# Altium schematic symbol library US-Plus-CPM.SCHLIB: 51 symbols
Pins are listed as number, name and electrical type; pins without a type are passive.

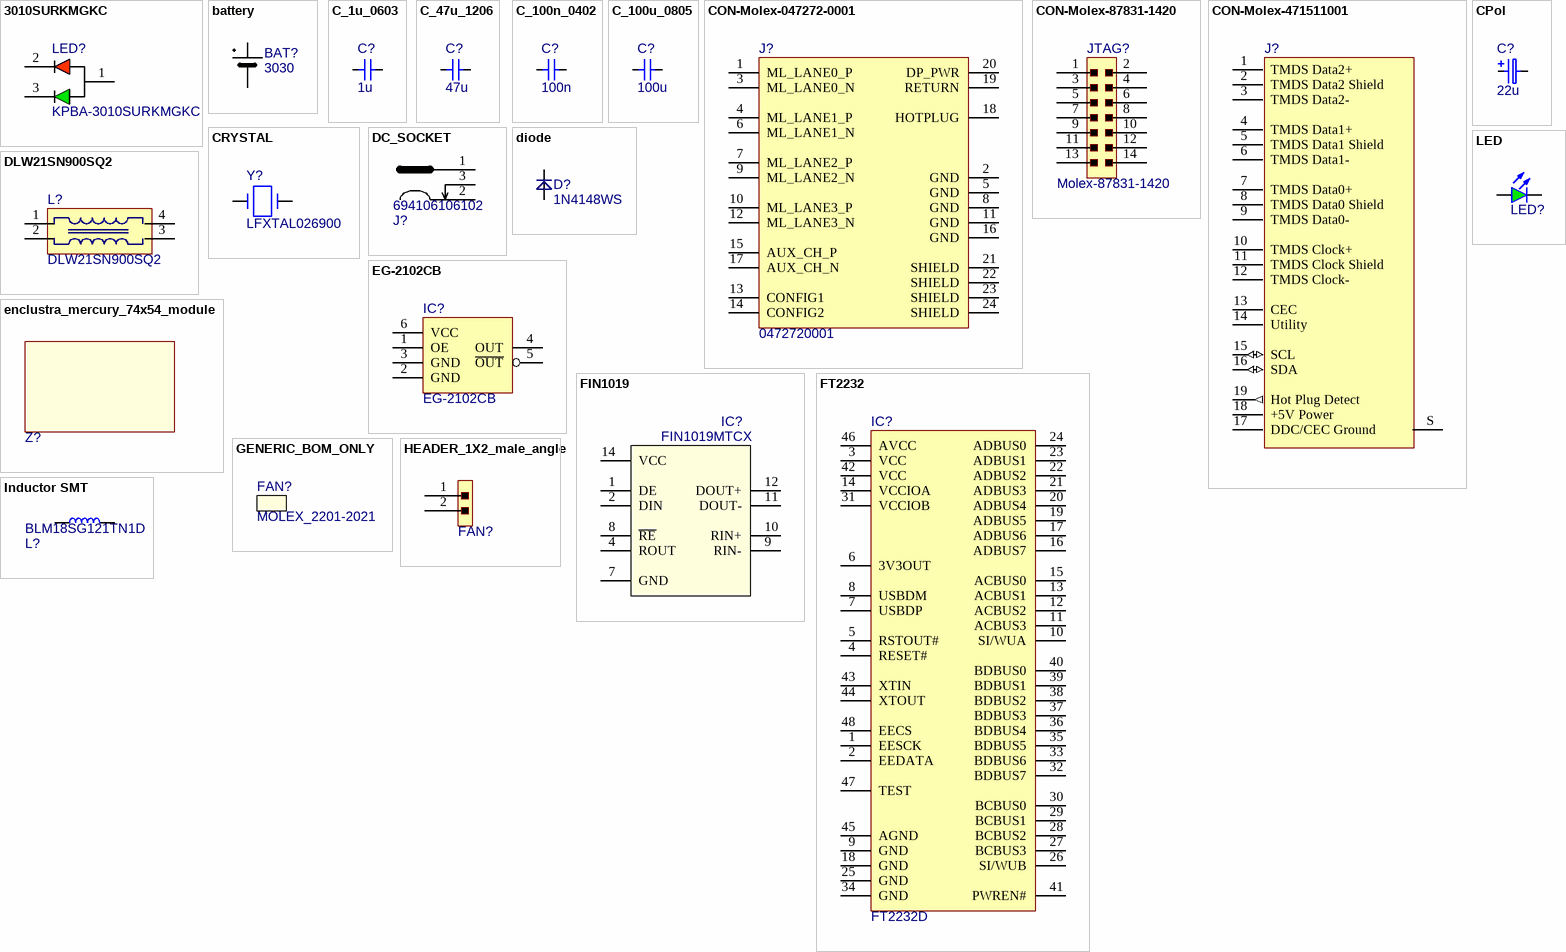
[diagram p0: symbols 3010SURKMGKC to LED]

## 3010SURKMGKC
designator LED?, comment KPBA-3010SURKMGKC
LED SMD 1104 red/green 3x1mm 140° Lens: transparent; Manufacturer: Kingbright; Part Number: KPBA-3010SURKMGKC; Value: KPBA-3010SURKMGKC; Part Symbol: KPBA-3010SURKMGKC
footprint 3010SURKMGKC
pins: 1 CA, 2 R_K, 3 G_K

## battery
designator BAT?, comment 3030
SMT holder for  CR1025 battery; Manufacturer: Keystone; Part Number: Keystone_CR1025; Value: 3030
footprint KEYSTONE_CR1025
pins: +, -

## C_1u_0603
designator C?, comment 1u
MLCC SMT Capacitor 1uF 0603; Part Number: C_1u_0603; Manufacturer: MULTICOMP; Part Symbol: MC0603X105M6R3CT; Value: 1u
footprint 0603
pins: 1, 2
1 alternate drawing of the same symbol

## C_47u_1206
designator C?, comment 47u
MLCC SMT Capacitor 47uF 1206; Part Number: C_47u_1206; Manufacturer: MURATA; Part Symbol: GRM31CC80J476KE18L; Value: 47u
footprint 1206
pins: 1, 2
1 alternate drawing of the same symbol

## C_100n_0402
designator C?, comment 100n
MLCC SMT Capacitor 100nF 0402; Part Number: C_100n_0402; Manufacturer: MULTICOMP; Part Symbol: MC0402X104M100CT; Value: 100n
footprint 0402
pins: 1, 2
1 alternate drawing of the same symbol

## C_100u_0805
designator C?, comment 100u
MLCC SMT Capacitor 100uF 0805; Part Number: C_100u_0805; Manufacturer: MURATA; Part Symbol: GRM21BR60J107ME15L; Value: 100u
footprint 0805
pins: 1, 2
1 alternate drawing of the same symbol

## CON-Molex-047272-0001
designator J?, comment 0472720001
Manufacturer: Molex; ClassName: DisplayPort; Part Symbol: 0472720001; Value: 0472720001
pins: 1 ML_LANE0_P, 2 GND, 3 ML_LANE0_N, 4 ML_LANE1_P, 5 GND, 6 ML_LANE1_N, 7 ML_LANE2_P, 8 GND, 9 ML_LANE2_N, 10 ML_LANE3_P, 11 GND, 12 ML_LANE3_N, 13 CONFIG1, 14 CONFIG2, 15 AUX_CH_P, 16 GND, 17 AUX_CH_N, 18 HOTPLUG, 19 RETURN, 20 DP_PWR, 21 SHIELD, 22 SHIELD, 23 SHIELD, 24 SHIELD

## CON-Molex-87831-1420
designator JTAG?, comment Molex-87831-1420
HEADER, SQUARE PIN, M/GRID, 14WAY; Part Number: CON-Molex-87831-1420; Manufacturer: MOLEX; Value: Molex-87831-1420; Part Symbol: 87831-1420
footprint CON-Molex-87831-1420
pins: 1, 2, 3, 4, 5, 6, 7, 8, 9, 10, 11, 12, 13, 14

## CON-Molex-471511001
designator J?
Header right angle HDMI; Part Number: CON-Molex-471511001; Manufacturer: MOLEX; Part Symbol: 47151-1001
footprint Molex_HDMI_471511001
pins: 1 TMDS Data2+, 2 TMDS Data2 Shield, 3 TMDS Data2-, 4 TMDS Data1+, 5 TMDS Data1 Shield, 6 TMDS Data1-, 7 TMDS Data0+, 8 TMDS Data0 Shield, 9 TMDS Data0-, 10 TMDS Clock+, 11 TMDS Clock Shield, 12 TMDS Clock-, 13 CEC, 14 Utility, 15 SCL (io), 16 SDA (io), 17 DDC/CEC Ground (power), 18 +5V Power (power), 19 Hot Plug Detect (out), S SH

## CPol
designator C?  value 22u
Tantalum SMT Capacitor 22uF Case KEMET_C; Part Number: C_22u_KEMET_C; Manufacturer: KEMET; Part Symbol: T491C226K025AT; Voltage: 25V
footprint KEMET_C
pins: 1, 2
1 alternate drawing of the same symbol

## CRYSTAL
designator Y?, comment LFXTAL026900
CRYSTAL, 6MHZ, 18PF, SMD; Part Number: CRYSTAL_6MHz_SMD; Manufacturer: IQD FREQUENCY PRODUCTS; Value: LFXTAL026900; Part Symbol: LFXTAL026900
footprint crystal_smd
pins: 1, 2

## DC_SOCKET
designator J?, comment 694106106102
DC Power Jack Right Angled SMT Ø6.4 with 4 soldering pads & pegs WR-DC; Part Number: WE-694106106102; Manufacturer: WURTH ELEKTRONIK; Pins number: 3; Value: 694106106102; Part Symbol: 694106106102
footprint 694106106102
pins: 1, 2, 3

## diode
designator D?, comment 1N4148WS
Diode small signal; Manufacturer: MULTICOMP; Part Number: 1N4148WS; Value: 1N4148WS; Part Symbol: 1N4148WS
footprint SOD-323
pins: A, C

## DLW21SN900SQ2
designator L?
Common mode choke; Manufacturer: MURATA; Part Symbol: DLW21SN900SQ2L; Part Number: DLW21SN900SQ2; Value: DLW21SN900SQ2
footprint DLW21SN900SQ2
pins: 1, 2, 3, 4

## EG-2102CB
designator IC?
Standard Clock Oscillators 156.25MHz 3V3; Manufacturer: Epson; Part Symbol: EG-2102CB 156.2500M-LGPAL3; Part Number: EG-2102CB; Value: EG-2102CB
footprint EG-2102CB
pins: 1 OE, 2 GND, 3 GND, 4 OUT, 5 ~{OUT}, 6 VCC

## enclustra_mercury_74x54_module
designator Z?, comment Mechanical  (value not drawn)
Part Number: MercuryModule_74x54
footprint mercury_74x54_module

## FIN1019
designator IC?, comment FIN1019MTCX
3.3 V LVDS High Speed Differential Driver Receiver; Manufacturer: OM SEMICONDUCTOR; Part Number: FIN1019MTCX; Value: FIN1019MTCX; Part Symbol: FIN1019MTCX; ClassName: DisplayPort
footprint TSSOP-14
pins: 1 DE, 2 DIN, 4 ROUT, 7 GND, 8 ~{RE}, 9 RIN-, 10 RIN+, 11 DOUT-, 12 DOUT+, 14 VCC
1 alternate drawing of the same symbol

## FT2232
designator IC?, comment FT2232D
Dual USB-UART/FIFO; Manufacturer: FTDI; Part Symbol: FT2232D-REEL; Part Number: FT2232D; Value: FT2232D
footprint LQFP-48
pins: 1 EESCK, 2 EEDATA, 3 VCC, 4 RESET#, 5 RSTOUT#, 6 3V3OUT, 7 USBDP, 8 USBDM, 9 GND, 10 SI/WUA, 11 ACBUS3, 12 ACBUS2, 13 ACBUS1, 14 VCCIOA, 15 ACBUS0, 16 ADBUS7, 17 ADBUS6, 18 GND, 19 ADBUS5, 20 ADBUS4, 21 ADBUS3, 22 ADBUS2, 23 ADBUS1, 24 ADBUS0, 25 GND, 26 SI/WUB, 27 BCBUS3, 28 BCBUS2, 29 BCBUS1, 30 BCBUS0, 31 VCCIOB, 32 BDBUS7, 33 BDBUS6, 34 GND, 35 BDBUS5, 36 BDBUS4, 37 BDBUS3, 38 BDBUS2, 39 BDBUS1, 40 BDBUS0, 41 PWREN#, 42 VCC, 43 XTIN, 44 XTOUT, 45 AGND, 46 AVCC, 47 TEST, 48 EECS

## GENERIC_BOM_ONLY
designator FAN?, comment MOLEX_2201-2021  (mechanical)
KK 254 Crimp Housing 2 circuits; Manufacturer: MOLEX; Part Number: MOLEX_2201-2021; Value: MOLEX_2201-2021; Part Symbol: MOLEX_2201-2021

## HEADER_1X2_male_angle
designator FAN?  (value not drawn)
1x2 pinhead male angle; Part Number: HEADER_1X2_male_angle
footprint HEADER_1X2_male 2.54mm Angle
pins: 1, 2

## Inductor SMT
designator L?, comment BLM18SG121TN1D
FERRITE BEAD, 0.025OHM, 3A, 0603; Manufacturer: MURATA; Part Number: BLM18SG121TN1D; Value: BLM18SG121TN1D; Part Symbol: BLM18SG121TN1D; Rated Current: 3A
footprint 0603
pins: 1, 2

## LED
designator LED?, comment KPT-1608SGC  (value not drawn)
LED Green 0603 case; Part Number: LED_G; Manufacturer: KINGBRIGHT; Value: KPT-1608SGC; Part Symbol: KPT-1608SGC
footprint LED0603
pins: A, K

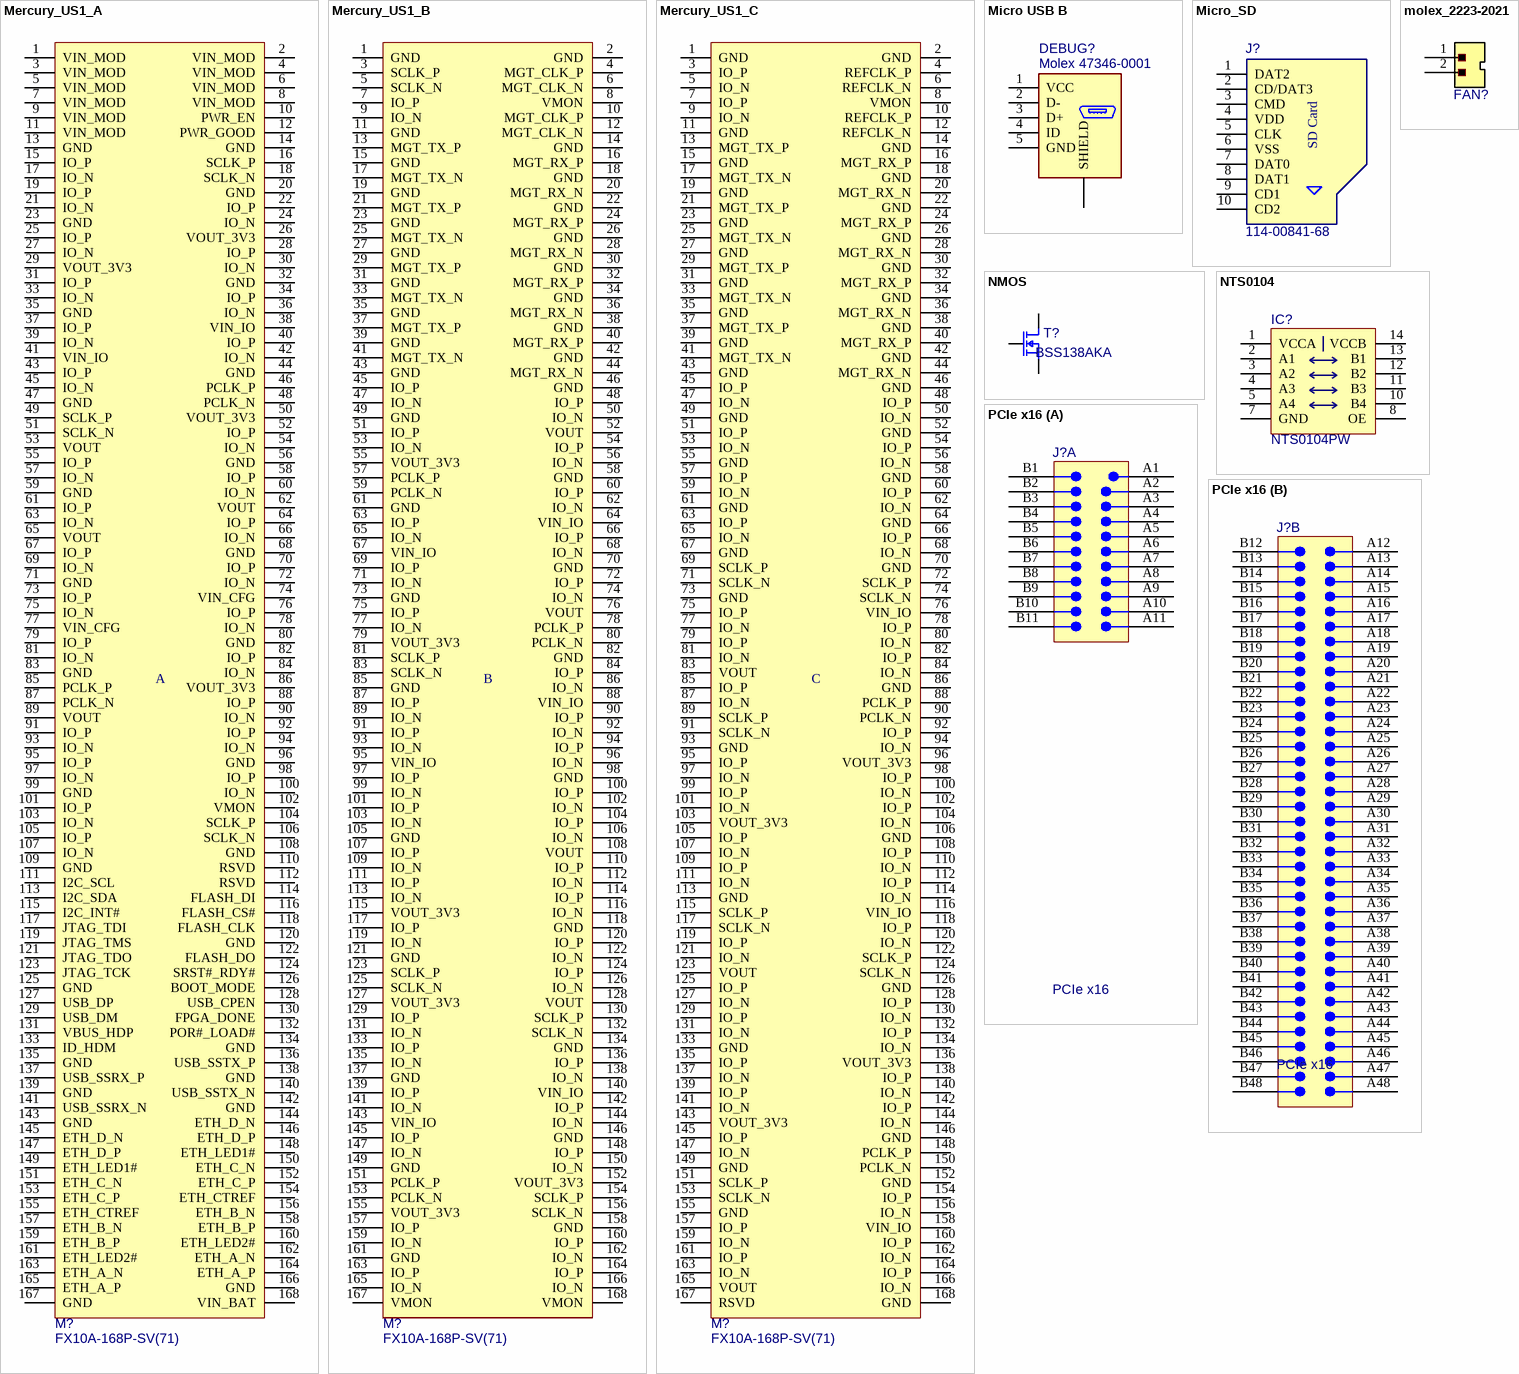
[diagram p1: symbols Mercury_US1_A to PCIe x16]

## Mercury_US1_A
designator M?, comment FX10A-168P-SV(71)
Enclustra Mercury Ultrascale connector; Part Number: Mercury_US1_A; Manufacturer: Hirose; Part Symbol: FX10A-168P-SV(71); Value: FX10A-168P-SV(71)
footprint HIROSE_FX10A-168P-SV(71)
pins: 1 VIN_MOD (power), 2 VIN_MOD (power), 3 VIN_MOD (power), 4 VIN_MOD (power), 5 VIN_MOD (power), 6 VIN_MOD (power), 7 VIN_MOD (power), 8 VIN_MOD (power), 9 VIN_MOD (power), 10 PWR_EN, 11 VIN_MOD (power), 12 PWR_GOOD, 13 GND (power), 14 GND (power), 15 IO_P, 16 SCLK_P, 17 IO_N, 18 SCLK_N, 19 IO_P, 20 GND (power), 21 IO_N, 22 IO_P, 23 GND (power), 24 IO_N, 25 IO_P, 26 VOUT_3V3 (power), 27 IO_N, 28 IO_P, 29 VOUT_3V3 (power), 30 IO_N, 31 IO_P, 32 GND (power), 33 IO_N, 34 IO_P, 35 GND (power), 36 IO_N, 37 IO_P, 38 VIN_IO (power), 39 IO_N, 40 IO_P, 41 VIN_IO (power), 42 IO_N, 43 IO_P, 44 GND (power), 45 IO_N, 46 PCLK_P, 47 GND (power), 48 PCLK_N, 49 SCLK_P, 50 VOUT_3V3 (power), 51 SCLK_N, 52 IO_P, 53 VOUT (power), 54 IO_N, 55 IO_P, 56 GND (power), 57 IO_N, 58 IO_P, 59 GND (power), 60 IO_N, 61 IO_P, 62 VOUT (power), 63 IO_N, 64 IO_P, 65 VOUT (power), 66 IO_N, 67 IO_P, 68 GND (power), 69 IO_N, 70 IO_P, 71 GND (power), 72 IO_N, 73 IO_P, 74 VIN_CFG (power), 75 IO_N, 76 IO_P, 77 VIN_CFG (power), 78 IO_N, 79 IO_P, 80 GND (power), 81 IO_N, 82 IO_P, 83 GND (power), 84 IO_N, 85 PCLK_P, 86 VOUT_3V3 (power), 87 PCLK_N, 88 IO_P, 89 VOUT (power), 90 IO_N, 91 IO_P, 92 IO_P, 93 IO_N, 94 IO_N, 95 IO_P, 96 GND (power), 97 IO_N, 98 IO_P, 99 GND (power), 100 IO_N, 101 IO_P, 102 VMON, 103 IO_N, 104 SCLK_P, 105 IO_P, 106 SCLK_N, 107 IO_N, 108 GND (power), 109 GND (power), 110 RSVD, 111 I2C_SCL, 112 RSVD, 113 I2C_SDA, 114 FLASH_DI, 115 I2C_INT#, 116 FLASH_CS#, 117 JTAG_TDI, 118 FLASH_CLK, 119 JTAG_TMS, 120 GND (power), 121 JTAG_TDO, 122 FLASH_DO, 123 JTAG_TCK, 124 SRST#_RDY#, 125 GND (power), 126 BOOT_MODE, 127 USB_DP, 128 USB_CPEN, 129 USB_DM, 130 FPGA_DONE, 131 VBUS_HDP, 132 POR#_LOAD#, 133 ID_HDM, 134 GND (power), 135 GND (power), 136 USB_SSTX_P, 137 USB_SSRX_P, 138 GND (power), 139 GND (power), 140 USB_SSTX_N, 141 USB_SSRX_N, 142 GND (power), 143 GND (power), 144 ETH_D_N, 145 ETH_D_N, 146 ETH_D_P, 147 ETH_D_P, 148 ETH_LED1#, 149 ETH_LED1#, 150 ETH_C_N, 151 ETH_C_N, 152 ETH_C_P, 153 ETH_C_P, 154 ETH_CTREF, 155 ETH_CTREF, 156 ETH_B_N, 157 ETH_B_N, 158 ETH_B_P, 159 ETH_B_P, 160 ETH_LED2#, 161 ETH_LED2#, 162 ETH_A_N, 163 ETH_A_N, 164 ETH_A_P, 165 ETH_A_P, 166 GND (power), 167 GND (power), 168 VIN_BAT (power)
text: A

## Mercury_US1_B
designator M?, comment FX10A-168P-SV(71)
Enclustra Mercury Ultrascale connector; Part Number: Mercury_US1_B; Manufacturer: Hirose; Part Symbol: FX10A-168P-SV(71); Value: FX10A-168P-SV(71)
footprint HIROSE_FX10A-168P-SV(71)
pins: 1 GND, 2 GND, 3 SCLK_P, 4 MGT_CLK_P, 5 SCLK_N, 6 MGT_CLK_N, 7 IO_P, 8 VMON, 9 IO_N, 10 MGT_CLK_P, 11 GND, 12 MGT_CLK_N, 13 MGT_TX_P, 14 GND, 15 GND, 16 MGT_RX_P, 17 MGT_TX_N, 18 GND, 19 GND, 20 MGT_RX_N, 21 MGT_TX_P, 22 GND, 23 GND, 24 MGT_RX_P, 25 MGT_TX_N, 26 GND, 27 GND, 28 MGT_RX_N, 29 MGT_TX_P, 30 GND, 31 GND, 32 MGT_RX_P, 33 MGT_TX_N, 34 GND, 35 GND, 36 MGT_RX_N, 37 MGT_TX_P, 38 GND, 39 GND, 40 MGT_RX_P, 41 MGT_TX_N, 42 GND, 43 GND, 44 MGT_RX_N, 45 IO_P, 46 GND, 47 IO_N, 48 IO_P, 49 GND, 50 IO_N, 51 IO_P, 52 VOUT, 53 IO_N, 54 IO_P, 55 VOUT_3V3, 56 IO_N, 57 PCLK_P, 58 GND, 59 PCLK_N, 60 IO_P, 61 GND, 62 IO_N, 63 IO_P, 64 VIN_IO, 65 IO_N, 66 IO_P, 67 VIN_IO, 68 IO_N, 69 IO_P, 70 GND, 71 IO_N, 72 IO_P, 73 GND, 74 IO_N, 75 IO_P, 76 VOUT, 77 IO_N, 78 PCLK_P, 79 VOUT_3V3, 80 PCLK_N, 81 SCLK_P, 82 GND, 83 SCLK_N, 84 IO_P, 85 GND, 86 IO_N, 87 IO_P, 88 VIN_IO, 89 IO_N, 90 IO_P, 91 IO_P, 92 IO_N, 93 IO_N, 94 IO_P, 95 VIN_IO, 96 IO_N, 97 IO_P, 98 GND, 99 IO_N, 100 IO_P, 101 IO_P, 102 IO_N, 103 IO_N, 104 IO_P, 105 GND, 106 IO_N, 107 IO_P, 108 VOUT, 109 IO_N, 110 IO_P, 111 IO_P, 112 IO_N, 113 IO_N, 114 IO_P, 115 VOUT_3V3, 116 IO_N, 117 IO_P, 118 GND, 119 IO_N, 120 IO_P, 121 GND, 122 IO_N, 123 SCLK_P, 124 IO_P, 125 SCLK_N, 126 IO_N, 127 VOUT_3V3, 128 VOUT, 129 IO_P, 130 SCLK_P, 131 IO_N, 132 SCLK_N, 133 IO_P, 134 GND, 135 IO_N, 136 IO_P, 137 GND, 138 IO_N, 139 IO_P, 140 VIN_IO, 141 IO_N, 142 IO_P, 143 VIN_IO, 144 IO_N, 145 IO_P, 146 GND, 147 IO_N, 148 IO_P, 149 GND, 150 IO_N, 151 PCLK_P, 152 VOUT_3V3, 153 PCLK_N, 154 SCLK_P, 155 VOUT_3V3, 156 SCLK_N, 157 IO_P, 158 GND, 159 IO_N, 160 IO_P, 161 GND, 162 IO_N, 163 IO_P, 164 IO_P, 165 IO_N, 166 IO_N, 167 VMON, 168 VMON
text: B

## Mercury_US1_C
designator M?, comment FX10A-168P-SV(71)
Enclustra Mercury Ultrascale connector; Part Number: Mercury_US1_C; Manufacturer: Hirose; Part Symbol: FX10A-168P-SV(71); Value: FX10A-168P-SV(71)
footprint HIROSE_FX10A-168P-SV(71)
pins: 1 GND, 2 GND, 3 IO_P, 4 REFCLK_P, 5 IO_N, 6 REFCLK_N, 7 IO_P, 8 VMON, 9 IO_N, 10 REFCLK_P, 11 GND, 12 REFCLK_N, 13 MGT_TX_P, 14 GND, 15 GND, 16 MGT_RX_P, 17 MGT_TX_N, 18 GND, 19 GND, 20 MGT_RX_N, 21 MGT_TX_P, 22 GND, 23 GND, 24 MGT_RX_P, 25 MGT_TX_N, 26 GND, 27 GND, 28 MGT_RX_N, 29 MGT_TX_P, 30 GND, 31 GND, 32 MGT_RX_P, 33 MGT_TX_N, 34 GND, 35 GND, 36 MGT_RX_N, 37 MGT_TX_P, 38 GND, 39 GND, 40 MGT_RX_P, 41 MGT_TX_N, 42 GND, 43 GND, 44 MGT_RX_N, 45 IO_P, 46 GND, 47 IO_N, 48 IO_P, 49 GND, 50 IO_N, 51 IO_P, 52 GND, 53 IO_N, 54 IO_P, 55 GND, 56 IO_N, 57 IO_P, 58 GND, 59 IO_N, 60 IO_P, 61 GND, 62 IO_N, 63 IO_P, 64 GND, 65 IO_N, 66 IO_P, 67 GND, 68 IO_N, 69 SCLK_P, 70 GND, 71 SCLK_N, 72 SCLK_P, 73 GND, 74 SCLK_N, 75 IO_P, 76 VIN_IO, 77 IO_N, 78 IO_P, 79 IO_P, 80 IO_N, 81 IO_N, 82 IO_P, 83 VOUT, 84 IO_N, 85 IO_P, 86 GND, 87 IO_N, 88 PCLK_P, 89 SCLK_P, 90 PCLK_N, 91 SCLK_N, 92 IO_P, 93 GND, 94 IO_N, 95 IO_P, 96 VOUT_3V3, 97 IO_N, 98 IO_P, 99 IO_P, 100 IO_N, 101 IO_N, 102 IO_P, 103 VOUT_3V3, 104 IO_N, 105 IO_P, 106 GND, 107 IO_N, 108 IO_P, 109 IO_P, 110 IO_N, 111 IO_N, 112 IO_P, 113 GND, 114 IO_N, 115 SCLK_P, 116 VIN_IO, 117 SCLK_N, 118 IO_P, 119 IO_P, 120 IO_N, 121 IO_N, 122 SCLK_P, 123 VOUT, 124 SCLK_N, 125 IO_P, 126 GND, 127 IO_N, 128 IO_P, 129 IO_P, 130 IO_N, 131 IO_N, 132 IO_P, 133 GND, 134 IO_N, 135 IO_P, 136 VOUT_3V3, 137 IO_N, 138 IO_P, 139 IO_P, 140 IO_N, 141 IO_N, 142 IO_P, 143 VOUT_3V3, 144 IO_N, 145 IO_P, 146 GND, 147 IO_N, 148 PCLK_P, 149 GND, 150 PCLK_N, 151 SCLK_P, 152 GND, 153 SCLK_N, 154 IO_P, 155 GND, 156 IO_N, 157 IO_P, 158 VIN_IO, 159 IO_N, 160 IO_P, 161 IO_P, 162 IO_N, 163 IO_N, 164 IO_P, 165 VOUT, 166 IO_N, 167 RSVD, 168 GND
text: C

## Micro USB B
designator DEBUG?, comment Molex 47346-0001
USB - micro B Receptacle Connector 5 Position Surface Mount, Right Angle, Horizontal; Part Number: CON-Molex-47346-0001; Part Symbol: 473460001; Value: Molex 47346-0001; Manufacturer: Molex
footprint CON-Molex-047346-0001
pins: 1 VCC (power), 2 D-, 3 D+, 4 ID, 5 GND (power), S SHIELD

## Micro_SD
designator J?, comment 114-00841-68
Micro SD card holder; Part Number: AMP-114-00841-68; Manufacturer: AMPHENOL COMMERCIAL PRODUCTS; Value: 114-00841-68; Part Symbol: 114-00841-68
footprint 114-00841-68
pins: 1 DAT2, 2 CD/DAT3, 3 CMD, 4 VDD, 5 CLK, 6 VSS, 7 DAT0, 8 DAT1, 9 CD1, 10 CD2
text: SD Card

## molex_2223-2021
designator FAN?, comment MX-22-23-2021  (value not drawn)
Pinhead connector with key; Part Number: molex_2223-2021; Manufacturer: Molex; Part Symbol: 022232021 A-6373-02A222; Value: MX-22-23-2021
footprint molex_2223-2021
pins: 1, 2

## NMOS
designator T?, comment BSS138AKA
MOSFET, N CH, 60V, 0.2A; Part Number: BSS138; Manufacturer: NXP; Value: BSS138AKA; Part Symbol: BSS138AKA
footprint SOT-23 (SOT23, 3-Leads, Body 2.90x2.45mm, Pitch 0.95mm, IPC Medium Density)
pins: 1 G, 2 S, 3 D

## NTS0104
designator IC?, comment NTS0104PW
4 bit voltage level translator; Manufacturer: NXP; Part Number: NTS0104PW; Value: NTS0104PW; Part Symbol: NTS0104PW
footprint TSSOP-14
pins: 1 VCCA, 2 A1, 3 A2, 4 A3, 5 A4, 7 GND, 8 OE, 10 B4, 11 B3, 12 B2, 13 B1, 14 VCCB

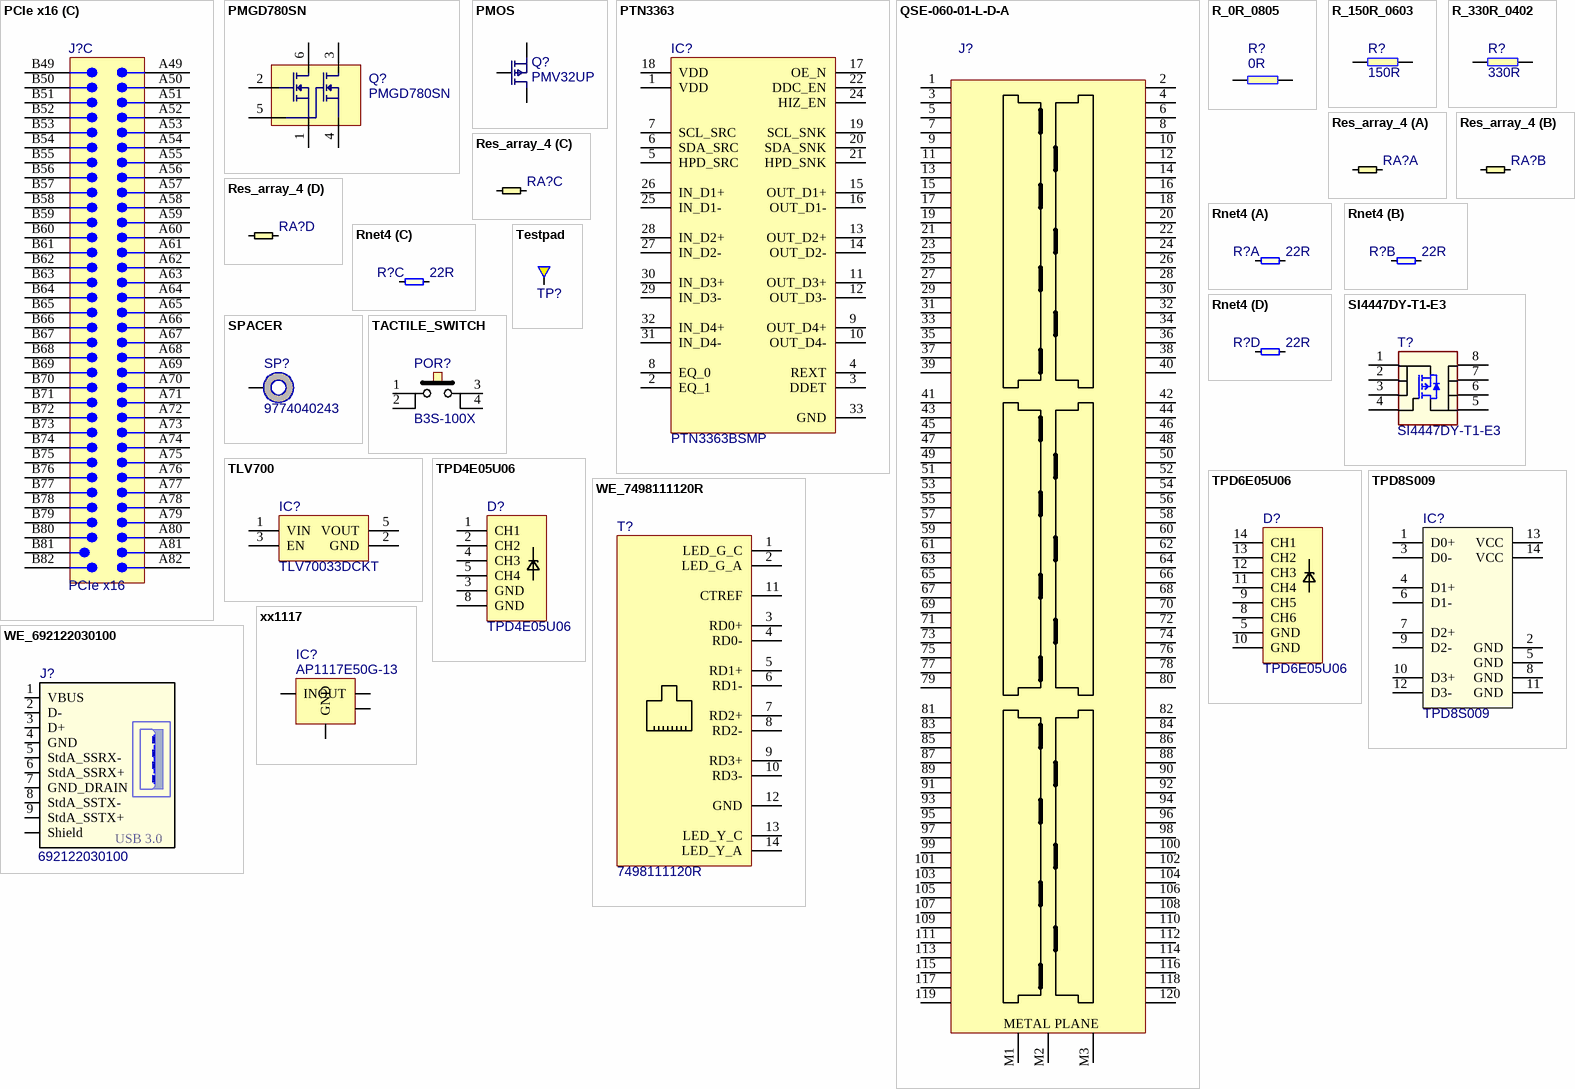
[diagram p2: symbols PCIe x16 to xx1117]

## PCIe x16
designator J?
PCI Express x16 164 2.36 mm; Manufacturer Part Number 1: 10018783-10113TLF; Current Rating: 1.1 A; Proven: No; Review: Yes; Category: PCI Express / PCI Connectors; Populated: N/A; Part Number: 10018783-10113TLF
footprint PCIe_x16_card_edge
part A pins: A1, A2, A3, A4, A5, A6, A7, A8, A9, A10, A11, B1, B2, B3, B4, B5, B6, B7, B8, B9, B10, B11
part B pins: A12, A13, A14, A15, A16, A17, A18, A19, A20, A21, A22, A23, A24, A25, A26, A27, A28, A29, A30, A31, A32, A33, A34, A35, A36, A37, A38, A39, A40, A41, A42, A43, A44, A45, A46, A47, A48, B12, B13, B14, B15, B16, B17, B18, B19, B20, B21, B22, B23, B24, B25, B26, B27, B28, B29, B30, B31, B32, B33, B34, B35, B36, B37, B38, B39, B40, B41, B42, B43, B44, B45, B46, B47, B48
part C pins: A49, A50, A51, A52, A53, A54, A55, A56, A57, A58, A59, A60, A61, A62, A63, A64, A65, A66, A67, A68, A69, A70, A71, A72, A73, A74, A75, A76, A77, A78, A79, A80, A81, A82, B49, B50, B51, B52, B53, B54, B55, B56, B57, B58, B59, B60, B61, B62, B63, B64, B65, B66, B67, B68, B69, B70, B71, B72, B73, B74, B75, B76, B77, B78, B79, B80, B81, B82

## PMGD780SN
designator Q?
60 V, dual N-channel Trench MOSFET; Manufacturer: NXP; Part Symbol: PMGD780SN,115; Part Number: PMGD780SN; Value: PMGD780SN
footprint SOT-363
pins: 1 S1, 2 G1, 3 D2, 4 S2, 5 G2, 6 D1

## PMOS
designator Q?, comment PMV32UP
P CH, 20V, 4A; Manufacturer: NXP; Part Number: PMV32UP; Value: PMV32UP; Part Symbol: PMV32UP
footprint SOT-23
pins: 1 G, 2 S, 3 D

## PTN3363
designator IC?, comment PTN3363BSMP
HDMI level shifter; Manufacturer: NXP; Part Number: PTN3363BSMP; Value: PTN3363BSMP; Part Symbol: PTN3363BSMP
footprint QFN-32
pins: 1 VDD, 2 EQ_1, 3 DDET, 4 REXT, 5 HPD_SRC, 6 SDA_SRC, 7 SCL_SRC, 8 EQ_0, 9 OUT_D4+, 10 OUT_D4-, 11 OUT_D3+, 12 OUT_D3-, 13 OUT_D2+, 14 OUT_D2-, 15 OUT_D1+, 16 OUT_D1-, 17 OE_N, 18 VDD, 19 SCL_SNK, 20 SDA_SNK, 21 HPD_SNK, 22 DDC_EN, 24 HIZ_EN, 25 IN_D1-, 26 IN_D1+, 27 IN_D2-, 28 IN_D2+, 29 IN_D3-, 30 IN_D3+, 31 IN_D4-, 32 IN_D4+, 33 GND

## QSE-060-01-L-D-A
designator J?  (value not drawn)
SAMTEC 	QSE-60-01-L-D-A  Stacking Board Connector, Dual Row, QSE Series, Receptacle, 0.8 m, 120 Contacts, Surface Mount; Value: QSE-060-01-L-D-A; Manufacturer: SAMTEC; Part Number: QSE-060-01-L-D-A
footprint QSE-060-01-L-D-A
pins: 1, 2, 3, 4, 5, 6, 7, 8, 9, 10, 11, 12, 13, 14, 15, 16, 17, 18, 19, 20, 21, 22, 23, 24, 25, 26, 27, 28, 29, 30, 31, 32, 33, 34, 35, 36, 37, 38, 39, 40, 41, 42, 43, 44, 45, 46, 47, 48, 49, 50, 51, 52, 53, 54, 55, 56, 57, 58, 59, 60, 61, 62, 63, 64, 65, 66, 67, 68, 69, 70, 71, 72, 73, 74, 75, 76, 77, 78, 79, 80, 81, 82, 83, 84, 85, 86, 87, 88, 89, 90, 91, 92, 93, 94, 95, 96, 97, 98, 99, 100, 101, 102, 103, 104, 105, 106, 107, 108, 109, 110, 111, 112, 113, 114, 115, 116, 117, 118, 119, 120, M1 124, M2, M3
text: METAL PLANE

## R_0R_0805
designator R?, comment 0R
SMT Resistor 0R 0805; Manufacturer: VISHAY; Part Number: R_0R_0805; Tolerance: 5%; Value: 0R
footprint 0805
pins: 1, 2

## R_150R_0603
designator R?, comment 150R
SMT Resistor 150R 0603; Part Number: R_150R_0603; Manufacturer: MULTICOMP; Part Symbol: MC0063W06031150R; Value: 150R
footprint 0603
pins: 1, 2

## R_330R_0402
designator R?, comment 330R
SMT Resistor 0402; Part Number: R_330R_0402; Manufacturer: MULTICOMP; Part Symbol: MCMR04X3300FTL; Tolerance: 1%; Value: 330R
footprint 0402
pins: 1, 2

## Res_array_4
designator RA?, comment 22R  (value not drawn)
YAGEO (PHYCOMP)  TC164-JR-0722RL  RESISTOR ARRAY, ARC241 1206 22R; Part Number: RA-22R-63mW-5%-1206; Value: 22R; Manufacturer: YAGEO (PHYCOMP); Part Symbol: TC164-JR-0722RL
footprint RA_1206
part A pins: 1, 5
part B pins: 2, 6
part C pins: 3, 7
part D pins: 4, 8

## Rnet4
designator R?, comment 22R
Bourns, 4 x 22R, CAY16; Part Number: CAY16-220J4LF; Value: 22R; Manufacturer: BOURNS; Part Symbol: CAY16-220J4LF
footprint BOURNS-CAY16-J4
part A pins: 1, 2
part B pins: 3, 4
part C pins: 5, 6
part D pins: 7, 8

## SI4447DY-T1-E3
designator T?
p-channel MOSFET, SI4447DY-T1-E3; Manufacturer: VISHAY; Part Number: SI4447DY-T1-E3; Value: SI4447DY-T1-E3; Part Symbol: SI4447DY-T1-E3
footprint SOIC-SN8_M
pins: 1, 2, 3, 4, 5, 6, 7, 8

## SPACER
designator SP?, comment 9774040243
M2x4; Part Number: WE_9774040243; Manufacturer: WURTH ELEKTRONIK; Part Symbol: 9774040243R; Value: 9774040243
footprint M2-4mm
pins: 1

## TACTILE_SWITCH
designator POR?, comment B3S-100X
Manufacturer: OMRON; Part Symbol: B3S-1002; Part Number: B3S-100X; Value: B3S-100X
footprint B3S-100X
pins: 1, 2, 3, 4

## Testpad
designator TP?  (value not drawn)  (no BOM)
Testpad 2mm diameter; Part Number: Testpad
footprint Testpad
pins: 1

## TLV700
designator IC?, comment TLV70033DCKT
Voltage Regulator, 2V to 5.5V, 175mV Dropout, 3.3Vout, 200mAout; Manufacturer: TEXAS INSTRUMENTS; Part Number: TLV70033DCKT; Value: TLV70033DCKT; Part Symbol: TLV70033DCKT
footprint SC70-5
pins: 1 VIN, 2 GND, 3 EN, 5 VOUT

## TPD4E05U06
designator D?
ESD Suppressors 4-CH; Part Number: TPD4E05U06_PASS; Manufacturer: Texas Instruments; Part Symbol: TPD4E05U06DQAR; Value: TPD4E05U06
footprint TPD4E05U06_PASS
pins: 1 CH1, 2 CH2, 3 GND, 4 CH3, 5 CH4, 8 GND

## TPD6E05U06
designator D?
ESD Suppressors 6-CH Pass through layout; Part Number: TPD6E05U06_PASS; Manufacturer: Texas Instruments; Part Symbol: TPD6E05U06RVZR; Value: TPD6E05U06
footprint TPD6E05U06_PASS
pins: 5 GND, 8 CH6, 9 CH5, 10 GND, 11 CH4, 12 CH3, 13 CH2, 14 CH1

## TPD8S009
designator IC?
8-Channel ESD Protection for DisplayPort and HDMI; Manufacturer: TEXAS INSTRUMENTS; Part Symbol: TPD8S009DSMR; Part Number: TPD8S009; Value: TPD8S009; ClassName: DisplayPort
footprint SON-15
pins: 1 D0+, 2 GND, 3 D0-, 4 D1+, 5 GND, 6 D1-, 7 D2+, 8 GND, 9 D2-, 10 D3+, 11 GND, 12 D3-, 13 VCC, 14 VCC
1 alternate drawing of the same symbol

## WE_7498111120R
designator T?, comment 7498111120R
LAN transformer 1000Base-T; Part Number: WE_7498111120R; Manufacturer: WURTH ELEKTRONIK; Value: 7498111120R; Part Symbol: 7498111120R
footprint 7498111120R
pins: 1 LED_G_C, 2 LED_G_A, 3 RD0+, 4 RD0-, 5 RD1+, 6 RD1-, 7 RD2+, 8 RD2-, 9 RD3+, 10 RD3-, 11 CTREF, 12 GND, 13 LED_Y_C, 14 LED_Y_A

## WE_692122030100
designator J?, comment 692122030100
Part Number: WE_692122030100; Manufacturer: WURTH ELEKTRONIK; Value: 692122030100; Part Symbol: 692122030100
footprint 692122030100
footprint 692122030100 (Receptacle Dual port TH)
footprint WE_692122030100
pins: 1 VBUS, 2 D-, 3 D+, 4 GND, 5 StdA_SSRX-, 6 StdA_SSRX+, 7 GND_DRAIN, 8 StdA_SSTX-, 9 StdA_SSTX+, Z1 Shield
text: USB 3.0

## xx1117
designator IC?, comment AP1117E50G-13
LDO, 2V/5.5V, 1A, 5V,  SOT223; Manufacturer: Diodes; Part Number: AP1117E50G-13; Part Symbol: AP1117E50G-13; Value: AP1117E50G-13
footprint SOT223
pins: 1 GND (power), 2 OUT, 3 IN (power), 4 OUT